# Altium integrated library Microchip Interface.IntLib: 329 symbols (part 7 of 10)
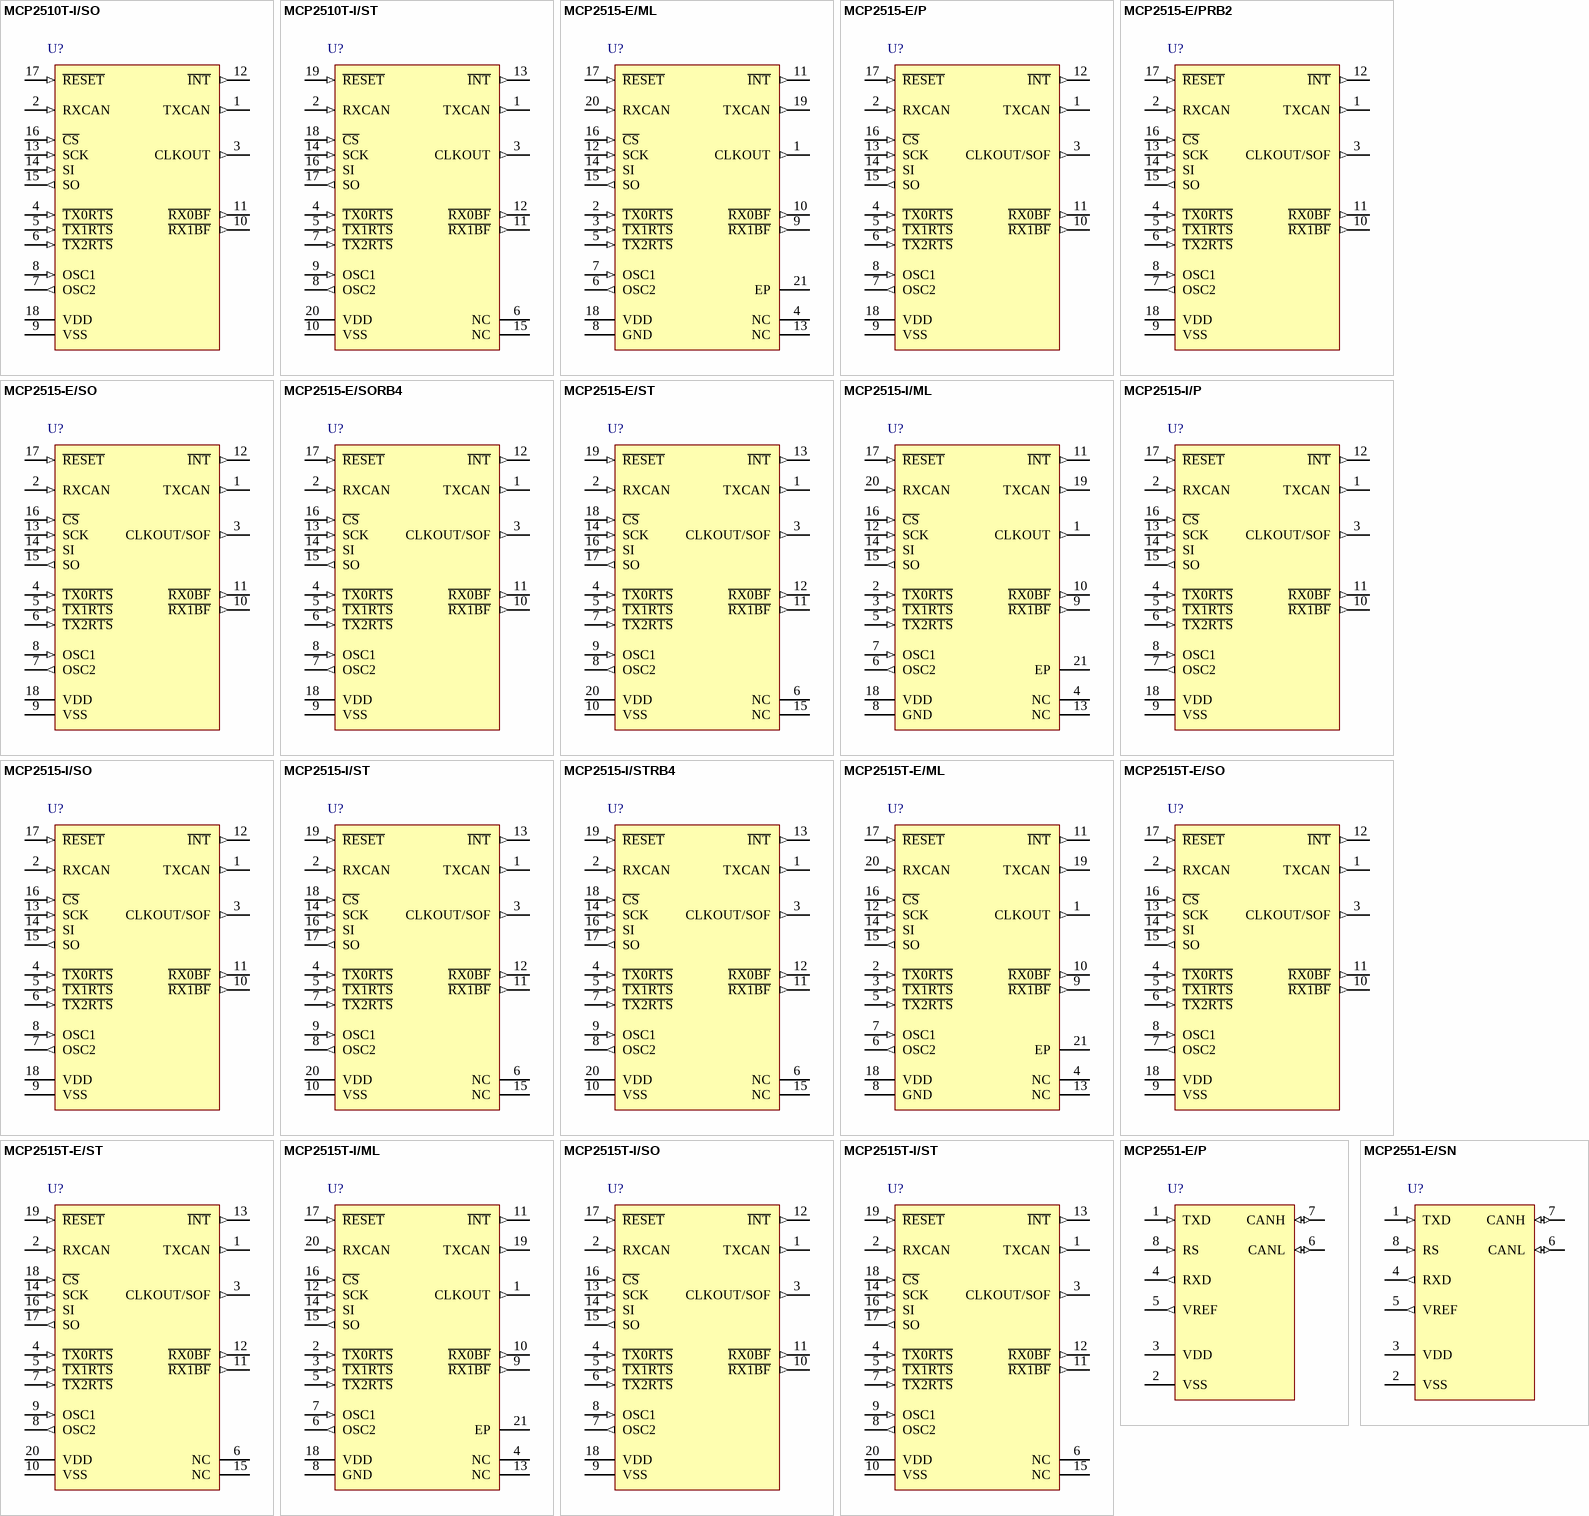
[diagram p19: symbols MCP2510T-I/SO to MCP2551-E/SN]

## MCP2515-E/SORB4
designator U?
Stand-Alone CAN Controller With SPI Interface, 18-Pin SOIC, Extended Temperature; Manufacturer: Microchip; PartNumber: MCP2515-E/SORB4; DatasheetVersion: revF, Oct-2010; PackageVersion: revBB, Aug-2009; PackageReference: SOIC-SO18; PackageDescription: 18-Lead Plastic Small Outline (SO) - Wide 7.50mm Body [SOIC]; Mounting Technology: Surface Mount; Code_JEDEC: MS-013; ComponentLink1Description: Manufacturer URL; ComponentLink1URL: http://www.microchip.com/; ComponentLink2Description: Datasheet; ComponentLink2URL: http://ww1.microchip.com/downloads/en/DeviceDoc/21801F.pdf; ComponentLink3Description: Package Specification; ComponentLink3URL: http://www.microchip.com/stellent/groups/techpub_sg/documents/packagingspec/en012702.pdf
footprint SOIC-SO18_N (SOIC, 18-Leads, Body 11.5x7.5mm, Pitch 1.27mm, IPC Medium Density)
footprint SOIC-SO18_L (SOIC, 18-Leads, Body 11.5x7.5mm, Pitch 1.27mm, IPC High Density)
footprint SOIC-SO18_M (SOIC, 18-Leads, Body 11.5x7.5mm, Pitch 1.27mm, IPC Low Density)
pins: 1 TXCAN (out), 2 RXCAN (in), 3 CLKOUT/SOF (out), 4 ~{TX0RTS} (in), 5 ~{TX1RTS} (in), 6 ~{TX2RTS} (in), 7 OSC2 (out), 8 OSC1 (in), 9 VSS (power), 10 ~{RX1BF} (out), 11 ~{RX0BF} (out), 12 ~{INT} (out), 13 SCK (in), 14 SI (in), 15 SO (out), 16 ~{CS} (in), 17 ~{RESET} (in), 18 VDD (power)

## MCP2515-E/ST
designator U?
Stand-Alone CAN Controller With SPI Interface, 20-Pin TSSOP, Extended Temperature; Manufacturer: Microchip; PartNumber: MCP2515-E/ST; DatasheetVersion: revF, Oct-2010; PackageVersion: revBB, Aug-2009; PackageReference: TSSOP-ST20; PackageDescription: 20-Lead Plastic Thin Shrink Small Outline (ST) - 4.4mm Body [TSSOP]; Supplier 1: Digi-Key; Supplier Part Number 1: MCP2515-E/ST-ND; Supplier 2: Farnell; Supplier Part Number 2: 1605566; Supplier 3: Newark; Supplier Part Number 3: 68H9365; Supplier 4: Mouser; Supplier Part Number 4: 579-MCP2515-E/ST; Mounting Technology: Surface Mount; Code_JEDEC: MO-153-AC; ComponentLink1Description: Manufacturer URL; ComponentLink1URL: http://www.microchip.com/; ComponentLink2Description: Datasheet; ComponentLink2URL: http://ww1.microchip.com/downloads/en/DeviceDoc/21801f.pdf; ComponentLink3Description: Package Specification; ComponentLink3URL: http://www.microchip.com/stellent/groups/techpub_sg/documents/packagingspec/en012702.pdf
footprint TSSOP-ST20_N (TSOP, 20-Leads, Body 6.5x4.4mm, Pitch 0.65mm, IPC Medium Density)
footprint TSSOP-ST20_L (TSOP, 20-Leads, Body 6.5x4.4mm, Pitch 0.65mm, IPC High Density)
footprint TSSOP-ST20_M (TSOP, 20-Leads, Body 6.5x4.4mm, Pitch 0.65mm, IPC Low Density)
pins: 1 TXCAN (out), 2 RXCAN (in), 3 CLKOUT/SOF (out), 4 ~{TX0RTS} (in), 5 ~{TX1RTS} (in), 6 NC, 7 ~{TX2RTS} (in), 8 OSC2 (out), 9 OSC1 (in), 10 VSS (power), 11 ~{RX1BF} (out), 12 ~{RX0BF} (out), 13 ~{INT} (out), 14 SCK (in), 15 NC, 16 SI (in), 17 SO (out), 18 ~{CS} (in), 19 ~{RESET} (in), 20 VDD (power)

## MCP2515-I/ML
designator U?
Stand-Alone CAN Controller With SPI Interface, 20-Pin QFN, Industrial Temperature; Manufacturer: Microchip; PartNumber: MCP2515-I/ML; DatasheetVersion: revF, Oct-2010; PackageVersion: revBB, Aug-2009; PackageReference: QFN-ML20; PackageDescription: 20-Lead Plastic Quad Flat, No Lead Package (ML) - 4x4x0.9 mm Body [QFN]; Mounting Technology: Surface Mount; ComponentLink1Description: Manufacturer URL; ComponentLink1URL: http://www.microchip.com/; ComponentLink2Description: Datasheet; ComponentLink2URL: http://ww1.microchip.com/downloads/en/DeviceDoc/21801F.pdf; ComponentLink3Description: Package Specification; ComponentLink3URL: http://www.microchip.com/stellent/groups/techpub_sg/documents/packagingspec/en012702.pdf
footprint QFN-ML20_N (QFN, 20-Leads, Body 4x4mm, Pitch 0.5mm, Thermal Pad 2.8x2.8mm, IPC Medium Density)
footprint QFN-ML20_L (QFN, 20-Leads, Body 4x4mm, Pitch 0.5mm, Thermal Pad 2.8x2.8mm, IPC High Density)
footprint QFN-ML20_M (QFN, 20-Leads, Body 4x4mm, Pitch 0.5mm, Thermal Pad 2.8x2.8mm, IPC Low Density)
pins: 1 CLKOUT (out), 2 ~{TX0RTS} (in), 3 ~{TX1RTS} (in), 4 NC, 5 ~{TX2RTS} (in), 6 OSC2 (out), 7 OSC1 (in), 8 GND (power), 9 ~{RX1BF} (out), 10 ~{RX0BF} (out), 11 ~{INT} (out), 12 SCK (in), 13 NC, 14 SI (in), 15 SO (out), 16 ~{CS} (in), 17 ~{RESET} (in), 18 VDD (power), 19 TXCAN (out), 20 RXCAN (in), 21 EP

## MCP2515-I/P
designator U?
Stand-Alone CAN Controller With SPI Interface, 18-Pin PDIP, Industrial Temperature; Manufacturer: Microchip; PartNumber: MCP2515-I/P; DatasheetVersion: revF, Oct-2010; PackageVersion: revBB, Aug-2009; PackageReference: PDIP300-P18; PackageDescription: 18-Lead Plastic Dual In-Line (P) - 300 mil Body [PDIP]; Supplier 1: Digi-Key; Supplier Part Number 1: MCP2515-I/P-ND; Supplier 2: Farnell; Supplier Part Number 2: 1439391; Supplier 3: Newark; Supplier Part Number 3: 61K2945; Supplier 4: Mouser; Supplier Part Number 4: 579-MCP2515-I/P; Mounting Technology: Through Hole; Code_JEDEC: MS-001; ComponentLink1Description: Manufacturer URL; ComponentLink1URL: http://www.microchip.com/; ComponentLink2Description: Datasheet; ComponentLink2URL: http://ww1.microchip.com/downloads/en/DeviceDoc/21801f.pdf; ComponentLink3Description: Package Specification; ComponentLink3URL: http://www.microchip.com/stellent/groups/techpub_sg/documents/packagingspec/en012702.pdf
footprint PDIP300-P18 (DIP, 18-Leads, Row Spacing 7.62mm, Pitch 2.54mm, Body 22.9x6.6mm)
pins: 1 TXCAN (out), 2 RXCAN (in), 3 CLKOUT/SOF (out), 4 ~{TX0RTS} (in), 5 ~{TX1RTS} (in), 6 ~{TX2RTS} (in), 7 OSC2 (out), 8 OSC1 (in), 9 VSS (power), 10 ~{RX1BF} (out), 11 ~{RX0BF} (out), 12 ~{INT} (out), 13 SCK (in), 14 SI (in), 15 SO (out), 16 ~{CS} (in), 17 ~{RESET} (in), 18 VDD (power)

## MCP2515-I/SO
designator U?
Stand-Alone CAN Controller With SPI Interface, 18-Pin SOIC, Industrial Temperature; Manufacturer: Microchip; PartNumber: MCP2515-I/SO; DatasheetVersion: revF, Oct-2010; PackageVersion: revBB, Aug-2009; PackageReference: SOIC-SO18; PackageDescription: 18-Lead Plastic Small Outline (SO) - Wide 7.50mm Body [SOIC]; Supplier 1: Digi-Key; Supplier Part Number 1: MCP2515-I/SO-ND; Supplier 2: Farnell; Supplier Part Number 2: 1292239; Supplier 3: Newark; Supplier Part Number 3: 29H7136; Supplier 4: Mouser; Supplier Part Number 4: 579-MCP2515-I/SO; Mounting Technology: Surface Mount; Code_JEDEC: MS-013; ComponentLink1Description: Manufacturer URL; ComponentLink1URL: http://www.microchip.com/; ComponentLink2Description: Datasheet; ComponentLink2URL: http://ww1.microchip.com/downloads/en/DeviceDoc/21801f.pdf; ComponentLink3Description: Package Specification; ComponentLink3URL: http://www.microchip.com/stellent/groups/techpub_sg/documents/packagingspec/en012702.pdf
footprint SOIC-SO18_N (SOIC, 18-Leads, Body 11.5x7.5mm, Pitch 1.27mm, IPC Medium Density)
footprint SOIC-SO18_L (SOIC, 18-Leads, Body 11.5x7.5mm, Pitch 1.27mm, IPC High Density)
footprint SOIC-SO18_M (SOIC, 18-Leads, Body 11.5x7.5mm, Pitch 1.27mm, IPC Low Density)
pins: 1 TXCAN (out), 2 RXCAN (in), 3 CLKOUT/SOF (out), 4 ~{TX0RTS} (in), 5 ~{TX1RTS} (in), 6 ~{TX2RTS} (in), 7 OSC2 (out), 8 OSC1 (in), 9 VSS (power), 10 ~{RX1BF} (out), 11 ~{RX0BF} (out), 12 ~{INT} (out), 13 SCK (in), 14 SI (in), 15 SO (out), 16 ~{CS} (in), 17 ~{RESET} (in), 18 VDD (power)

## MCP2515-I/ST
designator U?
Stand-Alone CAN Controller With SPI Interface, 20-Pin TSSOP, Industrial Temperature; Manufacturer: Microchip; PartNumber: MCP2515-I/ST; DatasheetVersion: revF, Oct-2010; PackageVersion: revBB, Aug-2009; PackageReference: TSSOP-ST20; PackageDescription: 20-Lead Plastic Thin Shrink Small Outline (ST) - 4.4mm Body [TSSOP]; Supplier 1: Digi-Key; Supplier Part Number 1: MCP2515-I/ST-ND; Supplier 2: Farnell; Supplier Part Number 2: 1196851; Supplier 3: Newark; Supplier Part Number 3: 61K2946; Supplier 4: Mouser; Supplier Part Number 4: 579-MCP2515-I/ST; Mounting Technology: Surface Mount; Code_JEDEC: MO-153-AC; ComponentLink1Description: Manufacturer URL; ComponentLink1URL: http://www.microchip.com/; ComponentLink2Description: Datasheet; ComponentLink2URL: http://ww1.microchip.com/downloads/en/DeviceDoc/21801f.pdf; ComponentLink3Description: Package Specification; ComponentLink3URL: http://www.microchip.com/stellent/groups/techpub_sg/documents/packagingspec/en012702.pdf
footprint TSSOP-ST20_N (TSOP, 20-Leads, Body 6.5x4.4mm, Pitch 0.65mm, IPC Medium Density)
footprint TSSOP-ST20_L (TSOP, 20-Leads, Body 6.5x4.4mm, Pitch 0.65mm, IPC High Density)
footprint TSSOP-ST20_M (TSOP, 20-Leads, Body 6.5x4.4mm, Pitch 0.65mm, IPC Low Density)
pins: 1 TXCAN (out), 2 RXCAN (in), 3 CLKOUT/SOF (out), 4 ~{TX0RTS} (in), 5 ~{TX1RTS} (in), 6 NC, 7 ~{TX2RTS} (in), 8 OSC2 (out), 9 OSC1 (in), 10 VSS (power), 11 ~{RX1BF} (out), 12 ~{RX0BF} (out), 13 ~{INT} (out), 14 SCK (in), 15 NC, 16 SI (in), 17 SO (out), 18 ~{CS} (in), 19 ~{RESET} (in), 20 VDD (power)

## MCP2515-I/STRB4
designator U?
Stand-Alone CAN Controller With SPI Interface, 20-Pin TSSOP, Industrial Temperature; Manufacturer: Microchip; PartNumber: MCP2515-I/STRB4; DatasheetVersion: revF, Oct-2010; PackageVersion: revBB, Aug-2009; PackageReference: TSSOP-ST20; PackageDescription: 20-Lead Plastic Thin Shrink Small Outline (ST) - 4.4mm Body [TSSOP]; Mounting Technology: Surface Mount; Code_JEDEC: MO-153-AC; ComponentLink1Description: Manufacturer URL; ComponentLink1URL: http://www.microchip.com/; ComponentLink2Description: Datasheet; ComponentLink2URL: http://ww1.microchip.com/downloads/en/DeviceDoc/21801F.pdf; ComponentLink3Description: Package Specification; ComponentLink3URL: http://www.microchip.com/stellent/groups/techpub_sg/documents/packagingspec/en012702.pdf
footprint TSSOP-ST20_N (TSOP, 20-Leads, Body 6.5x4.4mm, Pitch 0.65mm, IPC Medium Density)
footprint TSSOP-ST20_L (TSOP, 20-Leads, Body 6.5x4.4mm, Pitch 0.65mm, IPC High Density)
footprint TSSOP-ST20_M (TSOP, 20-Leads, Body 6.5x4.4mm, Pitch 0.65mm, IPC Low Density)
pins: 1 TXCAN (out), 2 RXCAN (in), 3 CLKOUT/SOF (out), 4 ~{TX0RTS} (in), 5 ~{TX1RTS} (in), 6 NC, 7 ~{TX2RTS} (in), 8 OSC2 (out), 9 OSC1 (in), 10 VSS (power), 11 ~{RX1BF} (out), 12 ~{RX0BF} (out), 13 ~{INT} (out), 14 SCK (in), 15 NC, 16 SI (in), 17 SO (out), 18 ~{CS} (in), 19 ~{RESET} (in), 20 VDD (power)

## MCP2515T-E/ML
designator U?
Stand-Alone CAN Controller With SPI Interface, 20-Pin QFN, Extended Temperature, Tape and Reel; Manufacturer: Microchip; PartNumber: MCP2515T-E/ML; DatasheetVersion: revF, Oct-2010; PackageVersion: revBB, Aug-2009; PackageReference: QFN-ML20; PackageDescription: 20-Lead Plastic Quad Flat, No Lead Package (ML) - 4x4x0.9 mm Body [QFN]; Supplier 1: Digi-Key; Supplier Part Number 1: MCP2515T-E/ML-ND; Supplier 2: Mouser; Supplier Part Number 2: 579-MCP2515T-E/ML; Mounting Technology: Surface Mount; ComponentLink1Description: Manufacturer URL; ComponentLink1URL: http://www.microchip.com/; ComponentLink2Description: Datasheet; ComponentLink2URL: http://ww1.microchip.com/downloads/en/DeviceDoc/21801F.pdf; ComponentLink3Description: Package Specification; ComponentLink3URL: http://www.microchip.com/stellent/groups/techpub_sg/documents/packagingspec/en012702.pdf
footprint QFN-ML20_N (QFN, 20-Leads, Body 4x4mm, Pitch 0.5mm, Thermal Pad 2.8x2.8mm, IPC Medium Density)
footprint QFN-ML20_L (QFN, 20-Leads, Body 4x4mm, Pitch 0.5mm, Thermal Pad 2.8x2.8mm, IPC High Density)
footprint QFN-ML20_M (QFN, 20-Leads, Body 4x4mm, Pitch 0.5mm, Thermal Pad 2.8x2.8mm, IPC Low Density)
pins: 1 CLKOUT (out), 2 ~{TX0RTS} (in), 3 ~{TX1RTS} (in), 4 NC, 5 ~{TX2RTS} (in), 6 OSC2 (out), 7 OSC1 (in), 8 GND (power), 9 ~{RX1BF} (out), 10 ~{RX0BF} (out), 11 ~{INT} (out), 12 SCK (in), 13 NC, 14 SI (in), 15 SO (out), 16 ~{CS} (in), 17 ~{RESET} (in), 18 VDD (power), 19 TXCAN (out), 20 RXCAN (in), 21 EP

## MCP2515T-E/SO
designator U?
Stand-Alone CAN Controller With SPI Interface, 18-Pin SOIC, Extended Temperature, Tape and Reel; Manufacturer: Microchip; PartNumber: MCP2515T-E/SO; DatasheetVersion: revF, Oct-2010; PackageVersion: revBB, Aug-2009; PackageReference: SOIC-SO18; PackageDescription: 18-Lead Plastic Small Outline (SO) - Wide 7.50mm Body [SOIC]; Supplier 1: Digi-Key; Supplier Part Number 1: MCP2515T-E/SO-ND; Supplier 2: Mouser; Supplier Part Number 2: 579-MCP2515T-E/SO; Mounting Technology: Surface Mount; Code_JEDEC: MS-013; ComponentLink1Description: Manufacturer URL; ComponentLink1URL: http://www.microchip.com/; ComponentLink2Description: Datasheet; ComponentLink2URL: http://ww1.microchip.com/downloads/en/DeviceDoc/21801f.pdf; ComponentLink3Description: Package Specification; ComponentLink3URL: http://www.microchip.com/stellent/groups/techpub_sg/documents/packagingspec/en012702.pdf
footprint SOIC-SO18_N (SOIC, 18-Leads, Body 11.5x7.5mm, Pitch 1.27mm, IPC Medium Density)
footprint SOIC-SO18_L (SOIC, 18-Leads, Body 11.5x7.5mm, Pitch 1.27mm, IPC High Density)
footprint SOIC-SO18_M (SOIC, 18-Leads, Body 11.5x7.5mm, Pitch 1.27mm, IPC Low Density)
pins: 1 TXCAN (out), 2 RXCAN (in), 3 CLKOUT/SOF (out), 4 ~{TX0RTS} (in), 5 ~{TX1RTS} (in), 6 ~{TX2RTS} (in), 7 OSC2 (out), 8 OSC1 (in), 9 VSS (power), 10 ~{RX1BF} (out), 11 ~{RX0BF} (out), 12 ~{INT} (out), 13 SCK (in), 14 SI (in), 15 SO (out), 16 ~{CS} (in), 17 ~{RESET} (in), 18 VDD (power)

## MCP2515T-E/ST
designator U?
Stand-Alone CAN Controller With SPI Interface, 20-Pin TSSOP, Extended Temperature, Tape and Reel; Manufacturer: Microchip; PartNumber: MCP2515T-E/ST; DatasheetVersion: revF, Oct-2010; PackageVersion: revBB, Aug-2009; PackageReference: TSSOP-ST20; PackageDescription: 20-Lead Plastic Thin Shrink Small Outline (ST) - 4.4mm Body [TSSOP]; Supplier 1: Digi-Key; Supplier Part Number 1: MCP2515T-E/ST-ND; Supplier 2: Newark; Supplier Part Number 2: 68H9366; Supplier 3: Mouser; Supplier Part Number 3: 579-MCP2515T-E/ST; Mounting Technology: Surface Mount; Code_JEDEC: MO-153-AC; ComponentLink1Description: Manufacturer URL; ComponentLink1URL: http://www.microchip.com/; ComponentLink2Description: Datasheet; ComponentLink2URL: http://ww1.microchip.com/downloads/en/DeviceDoc/21801f.pdf; ComponentLink3Description: Package Specification; ComponentLink3URL: http://www.microchip.com/stellent/groups/techpub_sg/documents/packagingspec/en012702.pdf
footprint TSSOP-ST20_N (TSOP, 20-Leads, Body 6.5x4.4mm, Pitch 0.65mm, IPC Medium Density)
footprint TSSOP-ST20_L (TSOP, 20-Leads, Body 6.5x4.4mm, Pitch 0.65mm, IPC High Density)
footprint TSSOP-ST20_M (TSOP, 20-Leads, Body 6.5x4.4mm, Pitch 0.65mm, IPC Low Density)
pins: 1 TXCAN (out), 2 RXCAN (in), 3 CLKOUT/SOF (out), 4 ~{TX0RTS} (in), 5 ~{TX1RTS} (in), 6 NC, 7 ~{TX2RTS} (in), 8 OSC2 (out), 9 OSC1 (in), 10 VSS (power), 11 ~{RX1BF} (out), 12 ~{RX0BF} (out), 13 ~{INT} (out), 14 SCK (in), 15 NC, 16 SI (in), 17 SO (out), 18 ~{CS} (in), 19 ~{RESET} (in), 20 VDD (power)

## MCP2515T-I/ML
designator U?
Stand-Alone CAN Controller With SPI Interface, 20-Pin QFN, Industrial Temperature, Tape and Reel; Manufacturer: Microchip; PartNumber: MCP2515T-I/ML; DatasheetVersion: revF, Oct-2010; PackageVersion: revBB, Aug-2009; PackageReference: QFN-ML20; PackageDescription: 20-Lead Plastic Quad Flat, No Lead Package (ML) - 4x4x0.9 mm Body [QFN]; Supplier 1: Digi-Key; Supplier Part Number 1: MCP2515T-I/MLTR-ND; Supplier 2: Digi-Key; Supplier Part Number 2: MCP2515T-I/MLCT-ND; Supplier 3: Digi-Key; Supplier Part Number 3: MCP2515T-I/MLDKR-ND; Supplier 4: Newark; Supplier Part Number 4: 23T2781; Supplier 5: Mouser; Supplier Part Number 5: 579-MCP2515T-I/ML; Mounting Technology: Surface Mount; ComponentLink1Description: Manufacturer URL; ComponentLink1URL: http://www.microchip.com/; ComponentLink2Description: Datasheet; ComponentLink2URL: http://ww1.microchip.com/downloads/en/DeviceDoc/21801F.pdf; ComponentLink3Description: Package Specification; ComponentLink3URL: http://www.microchip.com/stellent/groups/techpub_sg/documents/packagingspec/en012702.pdf
footprint QFN-ML20_N (QFN, 20-Leads, Body 4x4mm, Pitch 0.5mm, Thermal Pad 2.8x2.8mm, IPC Medium Density)
footprint QFN-ML20_L (QFN, 20-Leads, Body 4x4mm, Pitch 0.5mm, Thermal Pad 2.8x2.8mm, IPC High Density)
footprint QFN-ML20_M (QFN, 20-Leads, Body 4x4mm, Pitch 0.5mm, Thermal Pad 2.8x2.8mm, IPC Low Density)
pins: 1 CLKOUT (out), 2 ~{TX0RTS} (in), 3 ~{TX1RTS} (in), 4 NC, 5 ~{TX2RTS} (in), 6 OSC2 (out), 7 OSC1 (in), 8 GND (power), 9 ~{RX1BF} (out), 10 ~{RX0BF} (out), 11 ~{INT} (out), 12 SCK (in), 13 NC, 14 SI (in), 15 SO (out), 16 ~{CS} (in), 17 ~{RESET} (in), 18 VDD (power), 19 TXCAN (out), 20 RXCAN (in), 21 EP

## MCP2515T-I/SO
designator U?
Stand-Alone CAN Controller With SPI Interface, 18-Pin SOIC, Industrial Temperature, Tape and Reel; Manufacturer: Microchip; PartNumber: MCP2515T-I/SO; DatasheetVersion: revF, Oct-2010; PackageVersion: revBB, Aug-2009; PackageReference: SOIC-SO18; PackageDescription: 18-Lead Plastic Small Outline (SO) - Wide 7.50mm Body [SOIC]; Supplier 1: Digi-Key; Supplier Part Number 1: MCP2515T-I/SO-ND; Supplier 2: Farnell; Supplier Part Number 2: 1815922; Supplier 3: Newark; Supplier Part Number 3: 29H7139; Supplier 4: Mouser; Supplier Part Number 4: 579-MCP2515T-I/SO; Mounting Technology: Surface Mount; Code_JEDEC: MS-013; ComponentLink1Description: Manufacturer URL; ComponentLink1URL: http://www.microchip.com/; ComponentLink2Description: Datasheet; ComponentLink2URL: http://ww1.microchip.com/downloads/en/DeviceDoc/21801f.pdf; ComponentLink3Description: Package Specification; ComponentLink3URL: http://www.microchip.com/stellent/groups/techpub_sg/documents/packagingspec/en012702.pdf
footprint SOIC-SO18_N (SOIC, 18-Leads, Body 11.5x7.5mm, Pitch 1.27mm, IPC Medium Density)
footprint SOIC-SO18_L (SOIC, 18-Leads, Body 11.5x7.5mm, Pitch 1.27mm, IPC High Density)
footprint SOIC-SO18_M (SOIC, 18-Leads, Body 11.5x7.5mm, Pitch 1.27mm, IPC Low Density)
pins: 1 TXCAN (out), 2 RXCAN (in), 3 CLKOUT/SOF (out), 4 ~{TX0RTS} (in), 5 ~{TX1RTS} (in), 6 ~{TX2RTS} (in), 7 OSC2 (out), 8 OSC1 (in), 9 VSS (power), 10 ~{RX1BF} (out), 11 ~{RX0BF} (out), 12 ~{INT} (out), 13 SCK (in), 14 SI (in), 15 SO (out), 16 ~{CS} (in), 17 ~{RESET} (in), 18 VDD (power)

## MCP2515T-I/ST
designator U?
Stand-Alone CAN Controller With SPI Interface, 20-Pin TSSOP, Industrial Temperature, Tape and Reel; Manufacturer: Microchip; PartNumber: MCP2515T-I/ST; DatasheetVersion: revF, Oct-2010; PackageVersion: revBB, Aug-2009; PackageReference: TSSOP-ST20; PackageDescription: 20-Lead Plastic Thin Shrink Small Outline (ST) - 4.4mm Body [TSSOP]; Supplier 1: Digi-Key; Supplier Part Number 1: MCP2515T-I/ST-ND; Supplier 2: Farnell; Supplier Part Number 2: 2101292; Supplier 3: Newark; Supplier Part Number 3: 29H7140; Supplier 4: Mouser; Supplier Part Number 4: 579-MCP2515T-I/ST; Mounting Technology: Surface Mount; Code_JEDEC: MO-153-AC; ComponentLink1Description: Manufacturer URL; ComponentLink1URL: http://www.microchip.com/; ComponentLink2Description: Datasheet; ComponentLink2URL: http://ww1.microchip.com/downloads/en/DeviceDoc/21801f.pdf; ComponentLink3Description: Package Specification; ComponentLink3URL: http://www.microchip.com/stellent/groups/techpub_sg/documents/packagingspec/en012702.pdf
footprint TSSOP-ST20_N (TSOP, 20-Leads, Body 6.5x4.4mm, Pitch 0.65mm, IPC Medium Density)
footprint TSSOP-ST20_L (TSOP, 20-Leads, Body 6.5x4.4mm, Pitch 0.65mm, IPC High Density)
footprint TSSOP-ST20_M (TSOP, 20-Leads, Body 6.5x4.4mm, Pitch 0.65mm, IPC Low Density)
pins: 1 TXCAN (out), 2 RXCAN (in), 3 CLKOUT/SOF (out), 4 ~{TX0RTS} (in), 5 ~{TX1RTS} (in), 6 NC, 7 ~{TX2RTS} (in), 8 OSC2 (out), 9 OSC1 (in), 10 VSS (power), 11 ~{RX1BF} (out), 12 ~{RX0BF} (out), 13 ~{INT} (out), 14 SCK (in), 15 NC, 16 SI (in), 17 SO (out), 18 ~{CS} (in), 19 ~{RESET} (in), 20 VDD (power)

## MCP2551-E/P
designator U?
High-Speed CAN Transceiver, 8-Pin PDIP, Extended Temperature; Manufacturer: Microchip; PartNumber: MCP2551-E/P; DatasheetVersion: revF, Jul-2010; PackageVersion: revBB, Aug-2009; PackageReference: PDIP300-P8; PackageDescription: 8-Lead Plastic Dual In-Line (P) - 300 mil Body [PDIP]; Supplier 1: Digi-Key; Supplier Part Number 1: MCP2551-E/P-ND; Supplier 2: Farnell; Supplier Part Number 2: 1439745; Supplier 3: Newark; Supplier Part Number 3: 69K7603; Supplier 4: Mouser; Supplier Part Number 4: 579-MCP2551-E/P; Mounting Technology: Through Hole; Code_JEDEC: MS-001; ComponentLink1Description: Manufacturer URL; ComponentLink1URL: http://www.microchip.com/; ComponentLink2Description: Datasheet; ComponentLink2URL: http://ww1.microchip.com/downloads/en/DeviceDoc/21667F.pdf; ComponentLink3Description: Package Specification; ComponentLink3URL: http://www.microchip.com/stellent/groups/techpub_sg/documents/packagingspec/en012702.pdf
footprint PDIP300-P8 (DIP, 8-Leads, Row Spacing 7.62mm, Pitch 2.54mm, Body 9.5x6.6mm)
pins: 1 TXD (in), 2 VSS (power), 3 VDD (power), 4 RXD (out), 5 VREF (out), 6 CANL (io), 7 CANH (io), 8 RS (in)

## MCP2551-E/SN
designator U?
High-Speed CAN Transceiver, 8-Pin SOIC, Extended Temperature; Manufacturer: Microchip; PartNumber: MCP2551-E/SN; DatasheetVersion: revF, Jul-2010; PackageVersion: revBB, Aug-2009; PackageReference: SOIC-SN8; PackageDescription: 8-Lead Plastic Small Outline (SN) - Narrow, 3.90mm Body [SOIC]; Supplier 1: Digi-Key; Supplier Part Number 1: MCP2551-E/SN-ND; Supplier 2: Farnell; Supplier Part Number 2: 1467746; Supplier 3: Newark; Supplier Part Number 3: 92C4186; Supplier 4: Mouser; Supplier Part Number 4: 579-MCP2551-E/SN; Mounting Technology: Surface Mount; Code_JEDEC: MS-012; Code_IPC: SOIC127P600-8; ComponentLink1Description: Manufacturer URL; ComponentLink1URL: http://www.microchip.com/; ComponentLink2Description: Datasheet; ComponentLink2URL: http://ww1.microchip.com/downloads/en/DeviceDoc/21667F.pdf; ComponentLink3Description: Package Specification; ComponentLink3URL: http://www.microchip.com/stellent/groups/techpub_sg/documents/packagingspec/en012702.pdf
footprint SOIC-SN8_N (SOIC, 8-Leads, Body 4.9x3.8mm, Pitch 1.27mm, IPC Medium Density)
footprint SOIC-SN8_L (SOIC, 8-Leads, Body 4.9x3.8mm, Pitch 1.27mm, IPC High Density)
footprint SOIC-SN8_M (SOIC, 8-Leads, Body 4.9x3.8mm, Pitch 1.27mm, IPC Low Density)
pins: 1 TXD (in), 2 VSS (power), 3 VDD (power), 4 RXD (out), 5 VREF (out), 6 CANL (io), 7 CANH (io), 8 RS (in)

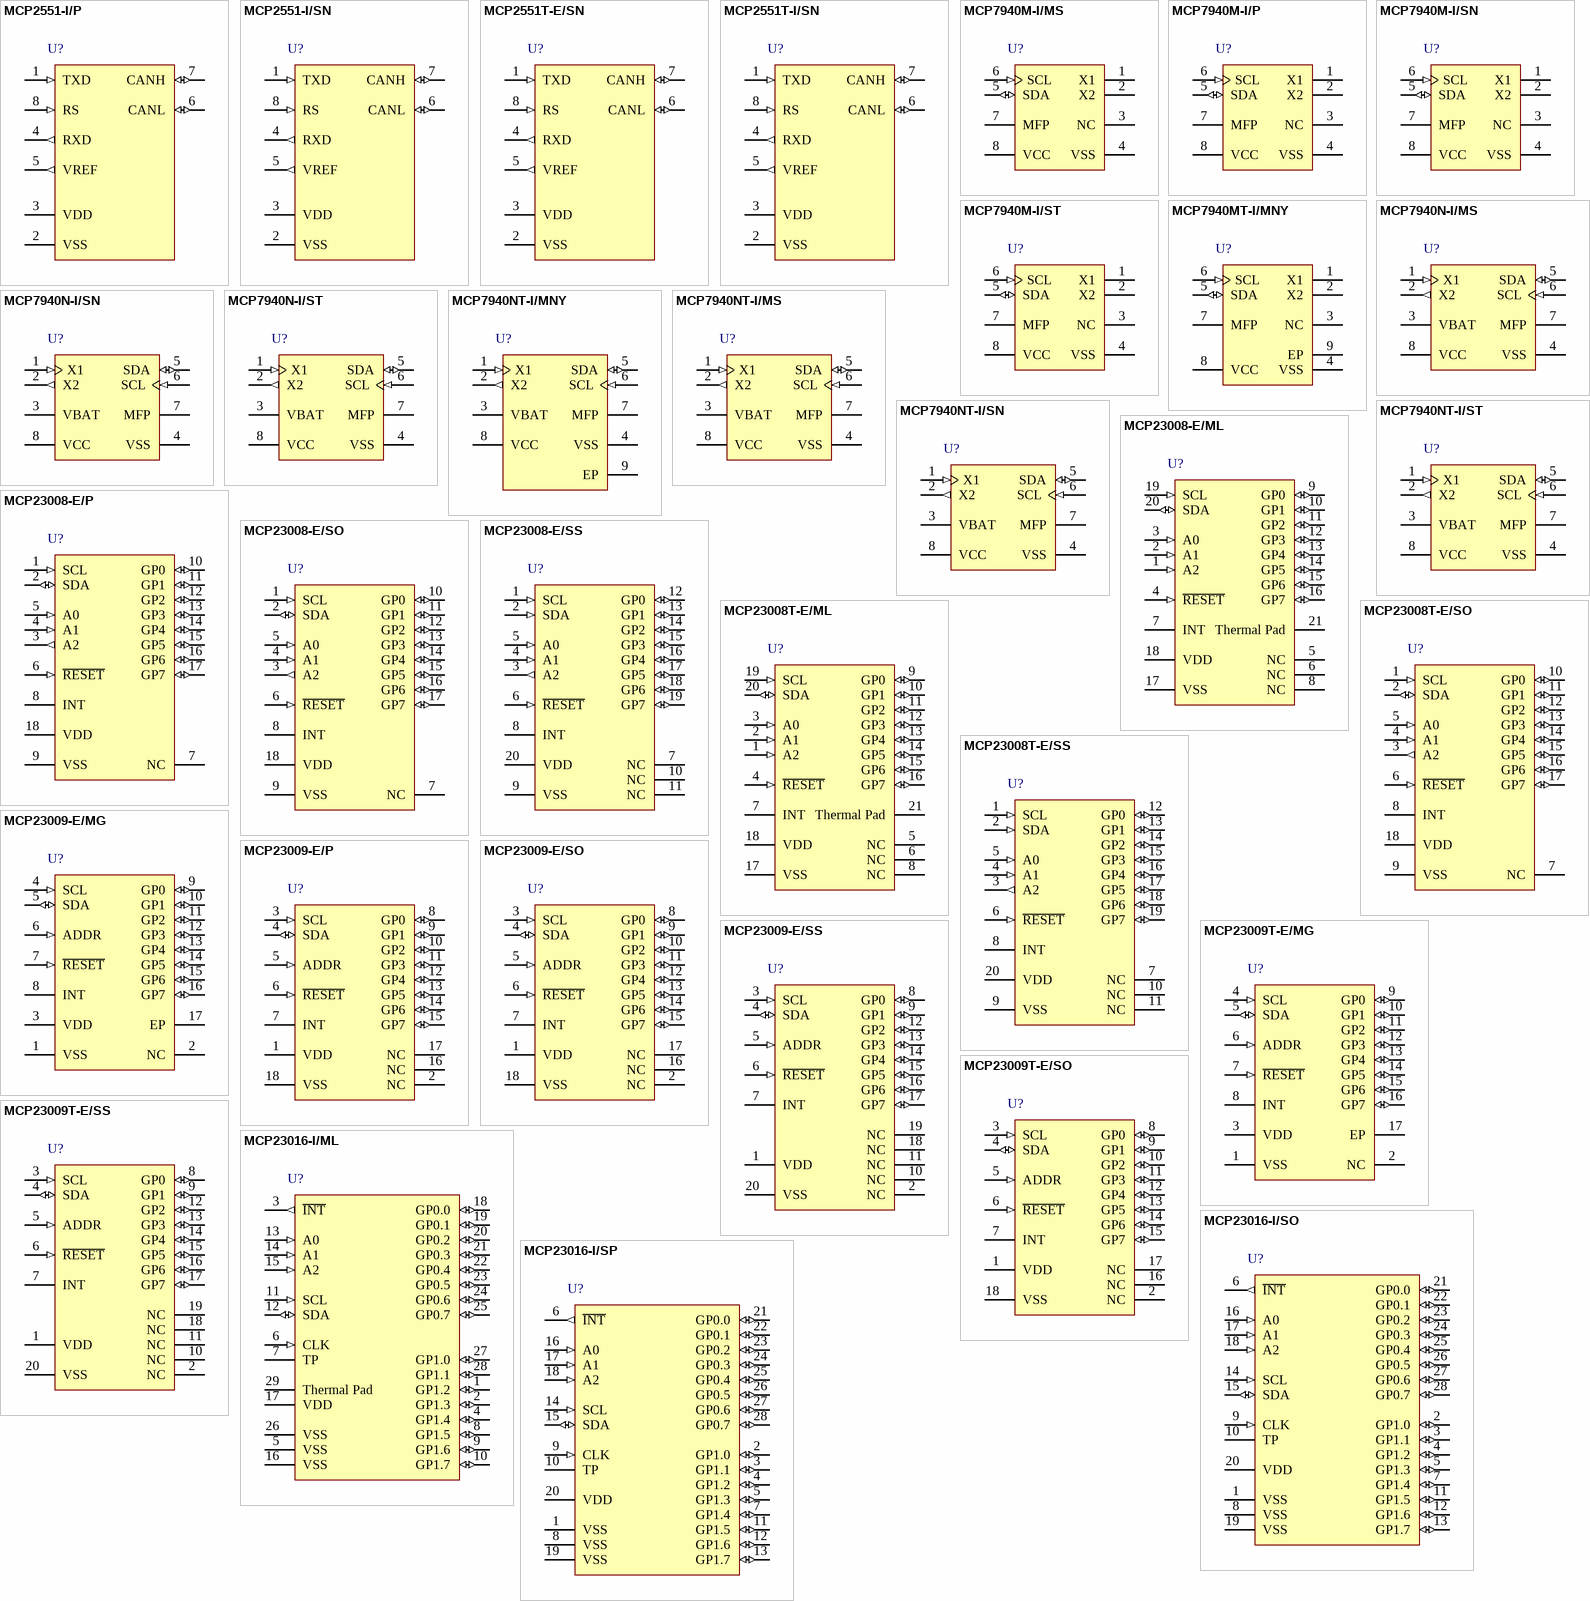
[diagram p10: symbols MCP2551-I/P to MCP23016-I/SP]

## MCP2551-I/P
designator U?
High-Speed CAN Transceiver, 8-Pin PDIP, Industrial Temperature; Manufacturer: Microchip; PartNumber: MCP2551-I/P; DatasheetVersion: revF, Jul-2010; PackageVersion: revBB, Aug-2009; PackageReference: PDIP300-P8; PackageDescription: 8-Lead Plastic Dual In-Line (P) - 300 mil Body [PDIP]; Supplier 1: Digi-Key; Supplier Part Number 1: MCP2551-I/P-ND; Supplier 2: Farnell; Supplier Part Number 2: 1292240; Supplier 3: Newark; Supplier Part Number 3: 61K2947; Supplier 4: Mouser; Supplier Part Number 4: 579-MCP2551-I/P; Mounting Technology: Through Hole; Code_JEDEC: MS-001; ComponentLink1Description: Manufacturer URL; ComponentLink1URL: http://www.microchip.com/; ComponentLink2Description: Datasheet; ComponentLink2URL: http://ww1.microchip.com/downloads/en/DeviceDoc/21667F.pdf; ComponentLink3Description: Package Specification; ComponentLink3URL: http://www.microchip.com/stellent/groups/techpub_sg/documents/packagingspec/en012702.pdf
footprint PDIP300-P8 (DIP, 8-Leads, Row Spacing 7.62mm, Pitch 2.54mm, Body 9.5x6.6mm)
pins: 1 TXD (in), 2 VSS (power), 3 VDD (power), 4 RXD (out), 5 VREF (out), 6 CANL (io), 7 CANH (io), 8 RS (in)

## MCP2551-I/SN
designator U?
High-Speed CAN Transceiver, 8-Pin SOIC, Industrial Temperature; Manufacturer: Microchip; PartNumber: MCP2551-I/SN; DatasheetVersion: revF, Jul-2010; PackageVersion: revBB, Aug-2009; PackageReference: SOIC-SN8; PackageDescription: 8-Lead Plastic Small Outline (SN) - Narrow, 3.90mm Body [SOIC]; Supplier 1: Digi-Key; Supplier Part Number 1: MCP2551-I/SN-ND; Supplier 2: Farnell; Supplier Part Number 2: 9758569; Supplier 3: Newark; Supplier Part Number 3: 69K7604; Supplier 4: Mouser; Supplier Part Number 4: 579-MCP2551-I/SN; Mounting Technology: Surface Mount; Code_JEDEC: MS-012; Code_IPC: SOIC127P600-8; ComponentLink1Description: Manufacturer URL; ComponentLink1URL: http://www.microchip.com/; ComponentLink2Description: Datasheet; ComponentLink2URL: http://ww1.microchip.com/downloads/en/DeviceDoc/21667F.pdf; ComponentLink3Description: Package Specification; ComponentLink3URL: http://www.microchip.com/stellent/groups/techpub_sg/documents/packagingspec/en012702.pdf
footprint SOIC-SN8_N (SOIC, 8-Leads, Body 4.9x3.8mm, Pitch 1.27mm, IPC Medium Density)
footprint SOIC-SN8_L (SOIC, 8-Leads, Body 4.9x3.8mm, Pitch 1.27mm, IPC High Density)
footprint SOIC-SN8_M (SOIC, 8-Leads, Body 4.9x3.8mm, Pitch 1.27mm, IPC Low Density)
pins: 1 TXD (in), 2 VSS (power), 3 VDD (power), 4 RXD (out), 5 VREF (out), 6 CANL (io), 7 CANH (io), 8 RS (in)

## MCP2551T-E/SN
designator U?
High-Speed CAN Transceiver, 8-Pin SOIC, Extended Temperature, Tape and Reel; Manufacturer: Microchip; PartNumber: MCP2551T-E/SN; DatasheetVersion: revF, Jul-2010; PackageVersion: revBB, Aug-2009; PackageReference: SOIC-SN8; PackageDescription: 8-Lead Plastic Small Outline (SN) - Narrow, 3.90mm Body [SOIC]; Supplier 1: Digi-Key; Supplier Part Number 1: MCP2551T-E/SN-ND; Supplier 2: Newark; Supplier Part Number 2: 92C4187; Supplier 3: Mouser; Supplier Part Number 3: 579-MCP2551T-E/SN; Mounting Technology: Surface Mount; Code_JEDEC: MS-012; Code_IPC: SOIC127P600-8; ComponentLink1Description: Manufacturer URL; ComponentLink1URL: http://www.microchip.com/; ComponentLink2Description: Datasheet; ComponentLink2URL: http://ww1.microchip.com/downloads/en/DeviceDoc/21667F.pdf; ComponentLink3Description: Package Specification; ComponentLink3URL: http://www.microchip.com/stellent/groups/techpub_sg/documents/packagingspec/en012702.pdf
footprint SOIC-SN8_N (SOIC, 8-Leads, Body 4.9x3.8mm, Pitch 1.27mm, IPC Medium Density)
footprint SOIC-SN8_L (SOIC, 8-Leads, Body 4.9x3.8mm, Pitch 1.27mm, IPC High Density)
footprint SOIC-SN8_M (SOIC, 8-Leads, Body 4.9x3.8mm, Pitch 1.27mm, IPC Low Density)
pins: 1 TXD (in), 2 VSS (power), 3 VDD (power), 4 RXD (out), 5 VREF (out), 6 CANL (io), 7 CANH (io), 8 RS (in)

## MCP2551T-I/SN
designator U?
High-Speed CAN Transceiver, 8-Pin SOIC, Industrial Temperature, Tape and Reel; Manufacturer: Microchip; PartNumber: MCP2551T-I/SN; DatasheetVersion: revF, Jul-2010; PackageVersion: revBB, Aug-2009; PackageReference: SOIC-SN8; PackageDescription: 8-Lead Plastic Small Outline (SN) - Narrow, 3.90mm Body [SOIC]; Supplier 1: Digi-Key; Supplier Part Number 1: MCP2551T-I/SNTR-ND; Supplier 2: Newark; Supplier Part Number 2: 92C4188; Supplier 3: Mouser; Supplier Part Number 3: 579-MCP2551T-I/SN; Mounting Technology: Surface Mount; Code_JEDEC: MS-012; Code_IPC: SOIC127P600-8; ComponentLink1Description: Manufacturer URL; ComponentLink1URL: http://www.microchip.com/; ComponentLink2Description: Datasheet; ComponentLink2URL: http://ww1.microchip.com/downloads/en/DeviceDoc/21667F.pdf; ComponentLink3Description: Package Specification; ComponentLink3URL: http://www.microchip.com/stellent/groups/techpub_sg/documents/packagingspec/en012702.pdf
footprint SOIC-SN8_N (SOIC, 8-Leads, Body 4.9x3.8mm, Pitch 1.27mm, IPC Medium Density)
footprint SOIC-SN8_L (SOIC, 8-Leads, Body 4.9x3.8mm, Pitch 1.27mm, IPC High Density)
footprint SOIC-SN8_M (SOIC, 8-Leads, Body 4.9x3.8mm, Pitch 1.27mm, IPC Low Density)
pins: 1 TXD (in), 2 VSS (power), 3 VDD (power), 4 RXD (out), 5 VREF (out), 6 CANL (io), 7 CANH (io), 8 RS (in)

## MCP7940M-I/MS
designator U?
Low-Cost I2C™ Real-Time Clock / Calendar with SRAM, 400 KHz Communications Speed, 64 Bytes SRAM, -40 to 85 degC, 8-pin MSOP (MS8), Tube; Manufacturer: Microchip; PartNumber: MCP7940M-I/MS; DatasheetVersion: Rev. A; PackageVersion: C04-111C; PackageReference: MSOP-MS8; PackageDescription: 8-Lead Plastic Micro Small Outline Package, 3 x 3 mm Body, 0.65 mm Pitch; Supplier 1: Digi-Key; Supplier Part Number 1: MCP7940M-I/MS-ND; Supplier 2: Farnell; Supplier Part Number 2: 2098889; Supplier 3: Newark; Supplier Part Number 3: 79T6323; Supplier 4: Mouser; Supplier Part Number 4: 579-MCP7940M-I/MS; Mounting Technology: Surface Mount; ComponentLink1Description: Manufacturer URL; ComponentLink1URL: http://www.microchip.com; ComponentLink2Description: Datasheet; ComponentLink2URL: http://ww1.microchip.com/downloads/en/DeviceDoc/22292A.pdf; ComponentLink3Description: Package Specification; ComponentLink3URL: http://www.microchip.com/stellent/groups/techpub_sg/documents/packagingspec/en012702.pdf; ComponentLink4Description: Product URL; ComponentLink4URL: http://www.microchip.com/MCP7940M
footprint MCHP-MSOP-MS8_N (SOP, 8-Leads, Body 3x3mm, Pitch 0.65mm, IPC Medium Density)
footprint MCHP-MSOP-MS8_L (SOP, 8-Leads, Body 3x3mm, Pitch 0.65mm, IPC High Density)
footprint MCHP-MSOP-MS8_M (SOP, 8-Leads, Body 3x3mm, Pitch 0.65mm, IPC Low Density)
pins: 1 X1 "Xtal Input, External Oscillator Input", 2 X2 "Xtal Output", 3 NC "Not Connected", 4 VSS (power) "Ground", 5 SDA (io) "Bidirectional Serial Data", 6 SCL (in) "Serial Clock", 7 MFP (oc) "Multi-Function Pin", 8 VCC (power) "+1.8V to +5.5V Power Supply"

## MCP7940M-I/P
designator U?
Low-Cost I2C™ Real-Time Clock / Calendar with SRAM, 400 KHz Communications Speed, 64 Bytes SRAM, -40 to 85 degC, 8-pin PDIP (P8), Tube; Manufacturer: Microchip; PartNumber: MCP7940M-I/P; DatasheetVersion: Rev. A; PackageVersion: C04-018B; PackageReference: PDIP-P8; PackageDescription: 8-Pin Plastic Dual In-Line, Row Spacing 7.62 mm, 9.5 x 6.6 mm Body, 2.54 mm Pitch; Supplier 1: Digi-Key; Supplier Part Number 1: MCP7940M-I/P-ND; Supplier 2: Farnell; Supplier Part Number 2: 2098894; Supplier 3: Newark; Supplier Part Number 3: 94T7491; Supplier 4: Mouser; Supplier Part Number 4: 579-MCP7940579-M-I/P; Mounting Technology: Through Hole; ComponentLink1Description: Manufacturer URL; ComponentLink1URL: http://www.microchip.com; ComponentLink2Description: Datasheet; ComponentLink2URL: http://ww1.microchip.com/downloads/en/DeviceDoc/22292A.pdf; ComponentLink3Description: Package Specification; ComponentLink3URL: http://www.microchip.com/stellent/groups/techpub_sg/documents/packagingspec/en012702.pdf; ComponentLink4Description: Product URL; ComponentLink4URL: http://www.microchip.com/MCP7940M
footprint MCHP-PDIP-P8 (PDIP, 8-Leads, Body 9.5x6.604mm, Pitch 2.54mm)
pins: 1 X1 "Xtal Input, External Oscillator Input", 2 X2 "Xtal Output", 3 NC "Not Connected", 4 VSS (power) "Ground", 5 SDA (io) "Bidirectional Serial Data", 6 SCL (in) "Serial Clock", 7 MFP (oc) "Multi-Function Pin", 8 VCC (power) "+1.8V to +5.5V Power Supply"

## MCP7940M-I/SN
designator U?
Low-Cost I2C™ Real-Time Clock / Calendar with SRAM, 400 KHz Communications Speed, 64 Bytes SRAM, -40 to 85 degC, 8-pin SOIC (SN8), Tube; Manufacturer: Microchip; PartNumber: MCP7940M-I/SN; DatasheetVersion: Rev. A; PackageVersion: C04-057C; PackageReference: SOIC-SN8; PackageDescription: 8-Lead Plastic Small Outline, 4.9 x 3.9 mm Body, 1.27 mm Pitch; Supplier 1: Digi-Key; Supplier Part Number 1: MCP7940M-I/SN-ND; Supplier 2: Farnell; Supplier Part Number 2: 2098890; Supplier 3: Newark; Supplier Part Number 3: 79T6324; Supplier 4: Mouser; Supplier Part Number 4: 579-MCP7940M-I/SN; Mounting Technology: Surface Mount; ComponentLink1Description: Manufacturer URL; ComponentLink1URL: http://www.microchip.com; ComponentLink2Description: Datasheet; ComponentLink2URL: http://ww1.microchip.com/downloads/en/DeviceDoc/22292A.pdf; ComponentLink3Description: Package Specification; ComponentLink3URL: http://www.microchip.com/stellent/groups/techpub_sg/documents/packagingspec/en012702.pdf; ComponentLink4Description: Product URL; ComponentLink4URL: http://www.microchip.com/MCP7940M
footprint MCHP-SOIC-SN8_N (SOIC, 8-Leads, Body 4.9x3.9mm, Pitch 1.27mm, IPC Medium Density)
footprint MCHP-SOIC-SN8_L (SOIC, 8-Leads, Body 4.9x3.9mm, Pitch 1.27mm, IPC High Density)
footprint MCHP-SOIC-SN8_M (SOIC, 8-Leads, Body 4.9x3.9mm, Pitch 1.27mm, IPC Low Density)
pins: 1 X1 "Xtal Input, External Oscillator Input", 2 X2 "Xtal Output", 3 NC "Not Connected", 4 VSS (power) "Ground", 5 SDA (io) "Bidirectional Serial Data", 6 SCL (in) "Serial Clock", 7 MFP (oc) "Multi-Function Pin", 8 VCC (power) "+1.8V to +5.5V Power Supply"

## MCP7940M-I/ST
designator U?
Low-Cost I2C™ Real-Time Clock / Calendar with SRAM, 400 KHz Communications Speed, 64 Bytes SRAM, -40 to 85 degC, 8-pin TSSOP (ST8), Tube; Manufacturer: Microchip; PartNumber: MCP7940M-I/ST; DatasheetVersion: Rev. A; PackageVersion: C04-086B; PackageReference: TSSOP-ST8; PackageDescription: 8-Lead Plastic Thin Shrink Small Outline, 3 x 4.4 mm Body, 0.65 mm Pitch; Supplier 1: Digi-Key; Supplier Part Number 1: MCP7940M-I/ST-ND; Supplier 2: Farnell; Supplier Part Number 2: 2098892; Supplier 3: Newark; Supplier Part Number 3: 79T6325; Supplier 4: Mouser; Supplier Part Number 4: 579-MCP7940M-I/ST; Mounting Technology: Surface Mount; ComponentLink1Description: Manufacturer URL; ComponentLink1URL: http://www.microchip.com; ComponentLink2Description: Datasheet; ComponentLink2URL: http://ww1.microchip.com/downloads/en/DeviceDoc/22292A.pdf; ComponentLink3Description: Package Specification; ComponentLink3URL: http://www.microchip.com/stellent/groups/techpub_sg/documents/packagingspec/en012702.pdf; ComponentLink4Description: Product URL; ComponentLink4URL: http://www.microchip.com/MCP7940M
footprint MCHP-TSSOP-ST8_N (SOP, 8-Leads, Body 4.4x3mm, Pitch 0.65mm, IPC Medium Density)
footprint MCHP-TSSOP-ST8_L (SOP, 8-Leads, Body 4.4x3mm, Pitch 0.65mm, IPC High Density)
footprint MCHP-TSSOP-ST8_M (SOP, 8-Leads, Body 4.4x3mm, Pitch 0.65mm, IPC Low Density)
pins: 1 X1 "Xtal Input, External Oscillator Input", 2 X2 "Xtal Output", 3 NC "Not Connected", 4 VSS (power) "Ground", 5 SDA (io) "Bidirectional Serial Data", 6 SCL (in) "Serial Clock", 7 MFP (oc) "Multi-Function Pin", 8 VCC (power) "+1.8V to +5.5V Power Supply"

## MCP7940MT-I/MNY
designator U?
Low-Cost I2C™ Real-Time Clock / Calendar with SRAM, 400 KHz Communications Speed, 64 Bytes SRAM, -40 to 85 degC, 8-pin TDFN (MNY8), Tape and Reel; Manufacturer: Microchip; PartNumber: MCP7940MT-I/MNY; DatasheetVersion: Rev. A; PackageVersion: C04-129C; PackageReference: TDFN-MNY8; PackageDescription: 8-Lead Plastic Dual Flat, 2 x 3 mm Body, 0.5 mm Pitch; Supplier 1: Digi-Key; Supplier Part Number 1: MCP7940MT-I/MNYTR-ND; Supplier 2: Digi-Key; Supplier Part Number 2: MCP7940MT-I/MNYCT-ND; Supplier 3: Digi-Key; Supplier Part Number 3: MCP7940MT-I/MNYDKR-ND; Supplier 4: Farnell; Supplier Part Number 4: 2098893; Supplier 5: Newark; Supplier Part Number 5: 79T6326; Supplier 6: Mouser; Supplier Part Number 6: 579-MCP7940MT-I/MNY; Mounting Technology: Surface Mount; ComponentLink1Description: Manufacturer URL; ComponentLink1URL: http://www.microchip.com; ComponentLink2Description: Datasheet; ComponentLink2URL: http://ww1.microchip.com/downloads/en/DeviceDoc/22292A.pdf; ComponentLink3Description: Package Specification; ComponentLink3URL: http://www.microchip.com/stellent/groups/techpub_sg/documents/packagingspec/en012702.pdf; ComponentLink4Description: Product URL; ComponentLink4URL: http://www.microchip.com/MCP7940M
footprint MCHP-TDFN-MNY8_V (SON, , Body 3x2mm, Pitch 0.5mm)
pins: 1 X1 "Xtal Input, External Oscillator Input", 2 X2 "Xtal Output", 3 NC "Not Connected", 4 VSS (power) "Ground", 5 SDA (io) "Bidirectional Serial Data", 6 SCL (in) "Serial Clock", 7 MFP (oc) "Multi-Function Pin", 8 VCC (power) "+1.8V to +5.5V Power Supply", 9 EP

## MCP7940N-I/MS
designator U?
Low-Cost I2C Real-Time Clock/Calendar with SRAM and Battery Switchover, 8-Pin MSOP, Industrial Temperature; Manufacturer: Microchip; PartNumber: MCP7940N-I/MS; DatasheetVersion: revC, Dec-2011; PackageVersion: revBB, Aug-2009; PackageReference: MSOP-MS8; PackageDescription: 8-Lead Plastic Micro Small Outline Package (MS) [MSOP]; Supplier 1: Digi-Key; Supplier Part Number 1: MCP7940N-I/MS-ND; Supplier 2: Newark; Supplier Part Number 2: 26T2747; Supplier 3: Mouser; Supplier Part Number 3: 579-MCP7940N-I/MS; Mounting Technology: Surface Mount; ComponentLink1Description: Manufacturer URL; ComponentLink1URL: http://www.microchip.com/; ComponentLink2Description: Datasheet; ComponentLink2URL: http://ww1.microchip.com/downloads/en/DeviceDoc/25010C.pdf; ComponentLink3Description: Package Specification; ComponentLink3URL: http://www.microchip.com/stellent/groups/techpub_sg/documents/packagingspec/en012702.pdf
footprint MSOP-MS8_N (TSOP, 8-Leads, Body 3x3mm, Pitch 0.65mm, IPC Medium Density)
footprint MSOP-MS8_L (TSOP, 8-Leads, Body 3x3mm, Pitch 0.65mm, IPC High Density)
footprint MSOP-MS8_M (TSOP, 8-Leads, Body 3x3mm, Pitch 0.65mm, IPC Low Density)
pins: 1 X1 (in), 2 X2 (out), 3 VBAT (power), 4 VSS (power), 5 SDA (io), 6 SCL (in), 7 MFP (oc), 8 VCC (power)

## MCP7940N-I/SN
designator U?
Low-Cost I2C Real-Time Clock/Calendar with SRAM and Battery Switchover, 8-Pin SOIC, Industrial Temperature; Manufacturer: Microchip; PartNumber: MCP7940N-I/SN; DatasheetVersion: revC, Dec-2011; PackageVersion: revBB, Aug-2009; PackageReference: SOIC-SN8; PackageDescription: 8-Lead Plastic Small Outline (SN) - Narrow, 3.90mm Body [SOIC]; Supplier 1: Digi-Key; Supplier Part Number 1: MCP7940N-I/SN-ND; Supplier 2: Newark; Supplier Part Number 2: 26T2748; Supplier 3: Mouser; Supplier Part Number 3: 579-MCP7940N-I/SN; Mounting Technology: Surface Mount; Code_JEDEC: MS-012; Code_IPC: SOIC127P600-8; ComponentLink1Description: Manufacturer URL; ComponentLink1URL: http://www.microchip.com/; ComponentLink2Description: Datasheet; ComponentLink2URL: http://ww1.microchip.com/downloads/en/DeviceDoc/25010C.pdf; ComponentLink3Description: Package Specification; ComponentLink3URL: http://www.microchip.com/stellent/groups/techpub_sg/documents/packagingspec/en012702.pdf
footprint SOIC-SN8_N (SOIC, 8-Leads, Body 4.9x3.8mm, Pitch 1.27mm, IPC Medium Density)
footprint SOIC-SN8_L (SOIC, 8-Leads, Body 4.9x3.8mm, Pitch 1.27mm, IPC High Density)
footprint SOIC-SN8_M (SOIC, 8-Leads, Body 4.9x3.8mm, Pitch 1.27mm, IPC Low Density)
pins: 1 X1 (in), 2 X2 (out), 3 VBAT (power), 4 VSS (power), 5 SDA (io), 6 SCL (in), 7 MFP (oc), 8 VCC (power)

## MCP7940N-I/ST
designator U?
Low-Cost I2C Real-Time Clock/Calendar with SRAM and Battery Switchover, 8-Pin TSSOP, Industrial Temperature; Manufacturer: Microchip; PartNumber: MCP7940N-I/ST; DatasheetVersion: revC, Dec-2011; PackageVersion: revBB, Aug-2009; PackageReference: TSSOP-ST8; PackageDescription: 8-Lead Plastic Thin Shrink Small Outline (ST) - 4.4mm Body [TSSOP]; Supplier 1: Digi-Key; Supplier Part Number 1: MCP7940N-I/ST-ND; Supplier 2: Newark; Supplier Part Number 2: 26T2749; Supplier 3: Mouser; Supplier Part Number 3: 579-MCP7940N-I/ST; Mounting Technology: Surface Mount; Code_JEDEC: MO-153; ComponentLink1Description: Manufacturer URL; ComponentLink1URL: http://www.microchip.com/; ComponentLink2Description: Datasheet; ComponentLink2URL: http://ww1.microchip.com/downloads/en/DeviceDoc/25010C.pdf; ComponentLink3Description: Package Specification; ComponentLink3URL: http://www.microchip.com/stellent/groups/techpub_sg/documents/packagingspec/en012702.pdf
footprint TSSOP-ST8_N (TSOP, 8-Leads, Body 3x4.4mm, Pitch 0.65mm, IPC Medium Density)
footprint TSSOP-ST8_L (TSOP, 8-Leads, Body 3x4.4mm, Pitch 0.65mm, IPC High Density)
footprint TSSOP-ST8_M (TSOP, 8-Leads, Body 3x4.4mm, Pitch 0.65mm, IPC Low Density)
pins: 1 X1 (in), 2 X2 (out), 3 VBAT (power), 4 VSS (power), 5 SDA (io), 6 SCL (in), 7 MFP (oc), 8 VCC (power)

## MCP7940NT-I/MNY
designator U?
Low-Cost I2C Real-Time Clock/Calendar with SRAM and Battery Switchover, 8-Pin TDFN, Industrial Temperature, Tape and Reel; Manufacturer: Microchip; PartNumber: MCP7940NT-I/MNY; DatasheetVersion: revC, Dec-2011; PackageVersion: revBB, Aug-2009; PackageReference: TDFN-MN8; PackageDescription: 8-Lead Plastic Dual Flat, No Lead Package (MN) - 2x3x0.75mm Body [TDFN]; Supplier 1: Digi-Key; Supplier Part Number 1: MCP7940NT-I/MNY-ND; Supplier 2: Mouser; Supplier Part Number 2: 579-MCP7940NT-I/MNY; Mounting Technology: Surface Mount; ComponentLink1Description: Manufacturer URL; ComponentLink1URL: http://www.microchip.com/; ComponentLink2Description: Datasheet; ComponentLink2URL: http://ww1.microchip.com/downloads/en/DeviceDoc/25010C.pdf; ComponentLink3Description: Package Specification; ComponentLink3URL: http://www.microchip.com/stellent/groups/techpub_sg/documents/packagingspec/en012702.pdf
footprint TDFN-MN8 (SON, 8-Leads, Body 2x3mm, Pitch 0.5mm, Microchip Recommended)
pins: 1 X1 (in), 2 X2 (out), 3 VBAT (power), 4 VSS (power), 5 SDA (io), 6 SCL (in), 7 MFP (oc), 8 VCC (power), 9 EP

## MCP7940NT-I/MS
designator U?
Low-Cost I2C Real-Time Clock/Calendar with SRAM and Battery Switchover, 8-Pin MSOP, Industrial Temperature, Tape and Reel; Manufacturer: Microchip; PartNumber: MCP7940NT-I/MS; DatasheetVersion: revC, Dec-2011; PackageVersion: revBB, Aug-2009; PackageReference: MSOP-MS8; PackageDescription: 8-Lead Plastic Micro Small Outline Package (MS) [MSOP]; Supplier 1: Digi-Key; Supplier Part Number 1: MCP7940NT-I/MS-ND; Supplier 2: Mouser; Supplier Part Number 2: 579-MCP7940NT-I/MS; Mounting Technology: Surface Mount; ComponentLink1Description: Manufacturer URL; ComponentLink1URL: http://www.microchip.com/; ComponentLink2Description: Datasheet; ComponentLink2URL: http://ww1.microchip.com/downloads/en/DeviceDoc/25010C.pdf; ComponentLink3Description: Package Specification; ComponentLink3URL: http://www.microchip.com/stellent/groups/techpub_sg/documents/packagingspec/en012702.pdf
footprint MSOP-MS8_N (TSOP, 8-Leads, Body 3x3mm, Pitch 0.65mm, IPC Medium Density)
footprint MSOP-MS8_L (TSOP, 8-Leads, Body 3x3mm, Pitch 0.65mm, IPC High Density)
footprint MSOP-MS8_M (TSOP, 8-Leads, Body 3x3mm, Pitch 0.65mm, IPC Low Density)
pins: 1 X1 (in), 2 X2 (out), 3 VBAT (power), 4 VSS (power), 5 SDA (io), 6 SCL (in), 7 MFP (oc), 8 VCC (power)

## MCP7940NT-I/SN
designator U?
Low-Cost I2C Real-Time Clock/Calendar with SRAM and Battery Switchover, 8-Pin SOIC, Industrial Temperature, Tape and Reel; Manufacturer: Microchip; PartNumber: MCP7940NT-I/SN; DatasheetVersion: revC, Dec-2011; PackageVersion: revBB, Aug-2009; PackageReference: SOIC-SN8; PackageDescription: 8-Lead Plastic Small Outline (SN) - Narrow, 3.90mm Body [SOIC]; Supplier 1: Digi-Key; Supplier Part Number 1: MCP7940NT-I/SN-ND; Supplier 2: Newark; Supplier Part Number 2: 26T2752; Supplier 3: Mouser; Supplier Part Number 3: 579-MCP7940NT-I/SN; Mounting Technology: Surface Mount; Code_JEDEC: MS-012; Code_IPC: SOIC127P600-8; ComponentLink1Description: Manufacturer URL; ComponentLink1URL: http://www.microchip.com/; ComponentLink2Description: Datasheet; ComponentLink2URL: http://ww1.microchip.com/downloads/en/DeviceDoc/25010C.pdf; ComponentLink3Description: Package Specification; ComponentLink3URL: http://www.microchip.com/stellent/groups/techpub_sg/documents/packagingspec/en012702.pdf
footprint SOIC-SN8_N (SOIC, 8-Leads, Body 4.9x3.8mm, Pitch 1.27mm, IPC Medium Density)
footprint SOIC-SN8_L (SOIC, 8-Leads, Body 4.9x3.8mm, Pitch 1.27mm, IPC High Density)
footprint SOIC-SN8_M (SOIC, 8-Leads, Body 4.9x3.8mm, Pitch 1.27mm, IPC Low Density)
pins: 1 X1 (in), 2 X2 (out), 3 VBAT (power), 4 VSS (power), 5 SDA (io), 6 SCL (in), 7 MFP (oc), 8 VCC (power)

## MCP7940NT-I/ST
designator U?
Low-Cost I2C Real-Time Clock/Calendar with SRAM and Battery Switchover, 8-Pin TSSOP, Industrial Temperature, Tape and Reel; Manufacturer: Microchip; PartNumber: MCP7940NT-I/ST; DatasheetVersion: revC, Dec-2011; PackageVersion: revBB, Aug-2009; PackageReference: TSSOP-ST8; PackageDescription: 8-Lead Plastic Thin Shrink Small Outline (ST) - 4.4mm Body [TSSOP]; Supplier 1: Digi-Key; Supplier Part Number 1: MCP7940NT-I/ST-ND; Supplier 2: Mouser; Supplier Part Number 2: 579-MCP7940NT-I/ST; Mounting Technology: Surface Mount; Code_JEDEC: MO-153; ComponentLink1Description: Manufacturer URL; ComponentLink1URL: http://www.microchip.com/; ComponentLink2Description: Datasheet; ComponentLink2URL: http://ww1.microchip.com/downloads/en/DeviceDoc/25010C.pdf; ComponentLink3Description: Package Specification; ComponentLink3URL: http://www.microchip.com/stellent/groups/techpub_sg/documents/packagingspec/en012702.pdf
footprint TSSOP-ST8_N (TSOP, 8-Leads, Body 3x4.4mm, Pitch 0.65mm, IPC Medium Density)
footprint TSSOP-ST8_L (TSOP, 8-Leads, Body 3x4.4mm, Pitch 0.65mm, IPC High Density)
footprint TSSOP-ST8_M (TSOP, 8-Leads, Body 3x4.4mm, Pitch 0.65mm, IPC Low Density)
pins: 1 X1 (in), 2 X2 (out), 3 VBAT (power), 4 VSS (power), 5 SDA (io), 6 SCL (in), 7 MFP (oc), 8 VCC (power)

## MCP23008-E/ML
designator U?
8-Bit I/O Expander with Serial Interface, 20-Pin QFN, Extended Temperature; Manufacturer: Microchip; PartNumber: MCP23008-E/ML; DatasheetVersion: revE, Aug-2007; PackageVersion: revBB, Aug-2009; PackageReference: QFN-ML20; PackageDescription: 20-Lead Plastic Quad Flat, No Lead Package (ML) - 4x4x0.9 mm Body [QFN]; Supplier 1: Digi-Key; Supplier Part Number 1: MCP23008-E/ML-ND; Supplier 2: Newark; Supplier Part Number 2: 17M0631; Supplier 3: Mouser; Supplier Part Number 3: 579-MCP23008-E/ML; Mounting Technology: Surface Mount; ComponentLink1Description: Manufacturer URL; ComponentLink1URL: http://www.microchip.com/; ComponentLink2Description: Datasheet; ComponentLink2URL: http://ww1.microchip.com/downloads/en/DeviceDoc/21919e.pdf; ComponentLink3Description: Package Specification; ComponentLink3URL: http://www.microchip.com/stellent/groups/techpub_sg/documents/packagingspec/en012702.pdf
footprint QFN-ML20_N (QFN, 20-Leads, Body 4x4mm, Pitch 0.5mm, Thermal Pad 2.8x2.8mm, IPC Medium Density)
footprint QFN-ML20_L (QFN, 20-Leads, Body 4x4mm, Pitch 0.5mm, Thermal Pad 2.8x2.8mm, IPC High Density)
footprint QFN-ML20_M (QFN, 20-Leads, Body 4x4mm, Pitch 0.5mm, Thermal Pad 2.8x2.8mm, IPC Low Density)
pins: 1 A2 (in), 2 A1 (in), 3 A0 (in), 4 ~{RESET} (in), 5 NC, 6 NC, 7 INT (oc), 8 NC, 9 GP0 (io), 10 GP1 (io), 11 GP2 (io), 12 GP3 (io), 13 GP4 (io), 14 GP5 (io), 15 GP6 (io), 16 GP7 (io), 17 VSS (power), 18 VDD (power), 19 SCL (in), 20 SDA (io), 21 Thermal Pad

## MCP23008-E/P
designator U?
8-Bit I/O Expander with Serial Interface, 18-Pin PDIP, Extended Temperature; Manufacturer: Microchip; PartNumber: MCP23008-E/P; DatasheetVersion: revE, Aug-2007; PackageVersion: revBB, Aug-2009; PackageReference: PDIP300-P18; PackageDescription: 18-Lead Plastic Dual In-Line (P) - 300 mil Body [PDIP]; Supplier 1: Digi-Key; Supplier Part Number 1: MCP23008-E/P-ND; Supplier 2: Farnell; Supplier Part Number 2: 1439387; Supplier 3: Newark; Supplier Part Number 3: 08J8737; Supplier 4: Mouser; Supplier Part Number 4: 579-MCP23008-E/P; Mounting Technology: Through Hole; Code_JEDEC: MS-001; ComponentLink1Description: Manufacturer URL; ComponentLink1URL: http://www.microchip.com/; ComponentLink2Description: Datasheet; ComponentLink2URL: http://ww1.microchip.com/downloads/en/DeviceDoc/21919e.pdf; ComponentLink3Description: Package Specification; ComponentLink3URL: http://www.microchip.com/stellent/groups/techpub_sg/documents/packagingspec/en012702.pdf
footprint PDIP300-P18 (DIP, 18-Leads, Row Spacing 7.62mm, Pitch 2.54mm, Body 22.9x6.6mm)
pins: 1 SCL (in), 2 SDA (io), 3 A2 (out), 4 A1 (in), 5 A0 (in), 6 ~{RESET} (in), 7 NC, 8 INT (oc), 9 VSS (power), 10 GP0 (io), 11 GP1 (io), 12 GP2 (io), 13 GP3 (io), 14 GP4 (io), 15 GP5 (io), 16 GP6 (io), 17 GP7 (io), 18 VDD (power)

## MCP23008-E/SO
designator U?
8-Bit I/O Expander with Serial Interface, 18-Pin SOIC, Extended Temperature; Manufacturer: Microchip; PartNumber: MCP23008-E/SO; DatasheetVersion: revE, Aug-2007; PackageVersion: revBB, Aug-2009; PackageReference: SOIC-SO18; PackageDescription: 18-Lead Plastic Small Outline (SO) - Wide 7.50mm Body [SOIC]; Supplier 1: Digi-Key; Supplier Part Number 1: MCP23008-E/SO-ND; Supplier 2: Farnell; Supplier Part Number 2: 1332086; Supplier 3: Newark; Supplier Part Number 3: 08J8738; Supplier 4: Mouser; Supplier Part Number 4: 579-MCP23008-E/SO; Mounting Technology: Surface Mount; Code_JEDEC: MS-013; ComponentLink1Description: Manufacturer URL; ComponentLink1URL: http://www.microchip.com/; ComponentLink2Description: Datasheet; ComponentLink2URL: http://ww1.microchip.com/downloads/en/DeviceDoc/21919e.pdf; ComponentLink3Description: Package Specification; ComponentLink3URL: http://www.microchip.com/stellent/groups/techpub_sg/documents/packagingspec/en012702.pdf
footprint SOIC-SO18_N (SOIC, 18-Leads, Body 11.5x7.5mm, Pitch 1.27mm, IPC Medium Density)
footprint SOIC-SO18_L (SOIC, 18-Leads, Body 11.5x7.5mm, Pitch 1.27mm, IPC High Density)
footprint SOIC-SO18_M (SOIC, 18-Leads, Body 11.5x7.5mm, Pitch 1.27mm, IPC Low Density)
pins: 1 SCL (in), 2 SDA (io), 3 A2 (out), 4 A1 (in), 5 A0 (in), 6 ~{RESET} (in), 7 NC, 8 INT (oc), 9 VSS (power), 10 GP0 (io), 11 GP1 (io), 12 GP2 (io), 13 GP3 (io), 14 GP4 (io), 15 GP5 (io), 16 GP6 (io), 17 GP7 (io), 18 VDD (power)